# EAGLE library part TCA9539 (library Portxexpander)
Name des Bauteiles: -->TCA9539 Daten:· Low Standby-Current Consumption of (TOP VIEW) 3 mA Max · I2C to Parallel Port Expander · Open-Drain Active-Low Interrupt Output · Active-Low Reset Input · 5-V Tolerant I/O Ports · Compatible With Most Microcontrollers · 400-kHz Fast I2C Bus · Polarity Inversion Register · Address by Two Hardware Address Pins for Use of up to Four Devices · Latched Outputs With High-Current Drive Capability for Directly Driving LEDs · Latch-Up Performance Exceeds 100 mA Per RTW PACKAGE JESD 78, Class II (TOP VIEW) · ESD Protection Exceeds JESD 22 – 2000-V Human-Body Model (A114-A) – 1000-V Charged-Device Model (C101) – 200-V Machine Model (A115-A) Artikelnummer:#keine feste Artikelnummer vorhanden / Atikel nicht lagermäßig vorhanden! Datenblatt:http://www.ti.com.cn/general/cn/docs/lit/getliterature.tsp?genericPartNumber=tca9539&fileType=pdf __________________________________________ generated by Eagle Description Tool am : 13.11.2014 07:19:01 erstellt von: Hm
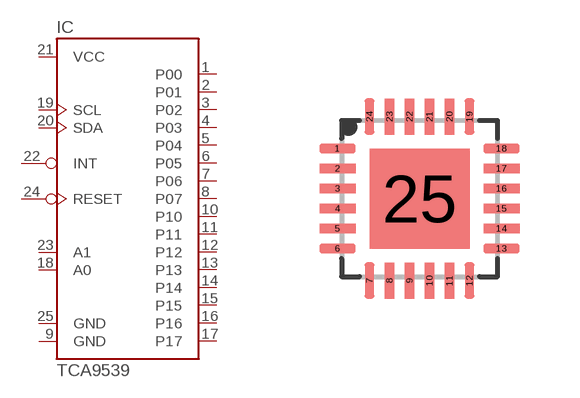
[diagram p1: symbol with the pads of S-PWQFN-N24; footprint S-PWQFN-N24]

Designator prefix IC

## TCA9539RTWR  [S-PWQFN-N24]
1  P00
2  P01
3  P02
4  P03
5  P04
6  P05
7  P06
8  P07
9  GND
10  P10
11  P11
12  P12
13  P13
14  P14
15  P15
16  P16
17  P17
18  A0
19  SCL
20  SDA
21  VCC
22  INT
23  A1
24  RESET
25  GND

## Footprint S-PWQFN-N24 (pad centres in mm)
smd 0.9 x 0.24: 1 -2.05,1.25; 2 -2.05,0.75; 3 -2.05,0.25; 4 -2.05,-0.25; 5 -2.05,-0.75; 6 -2.05,-1.25; 13 2.05,-1.25; 14 2.05,-0.75; 15 2.05,-0.25; 16 2.05,0.25; 17 2.05,0.75; 18 2.05,1.25
smd 0.24 x 0.9: 7 -1.25,-2.05; 8 -0.75,-2.05; 9 -0.25,-2.05; 10 0.25,-2.05; 11 0.75,-2.05; 12 1.25,-2.05; 19 1.25,2.05; 20 0.75,2.05; 21 0.25,2.05; 22 -0.25,2.05; 23 -0.75,2.05; 24 -1.25,2.05
smd 2.5 x 2.5: 25 0,0